# EAGLE library part IS63WV1024BLL-* (library memory-issi-asynsram)
128k x 8 high- speed CMOS static RAM 12ns access time 3.6V power supply
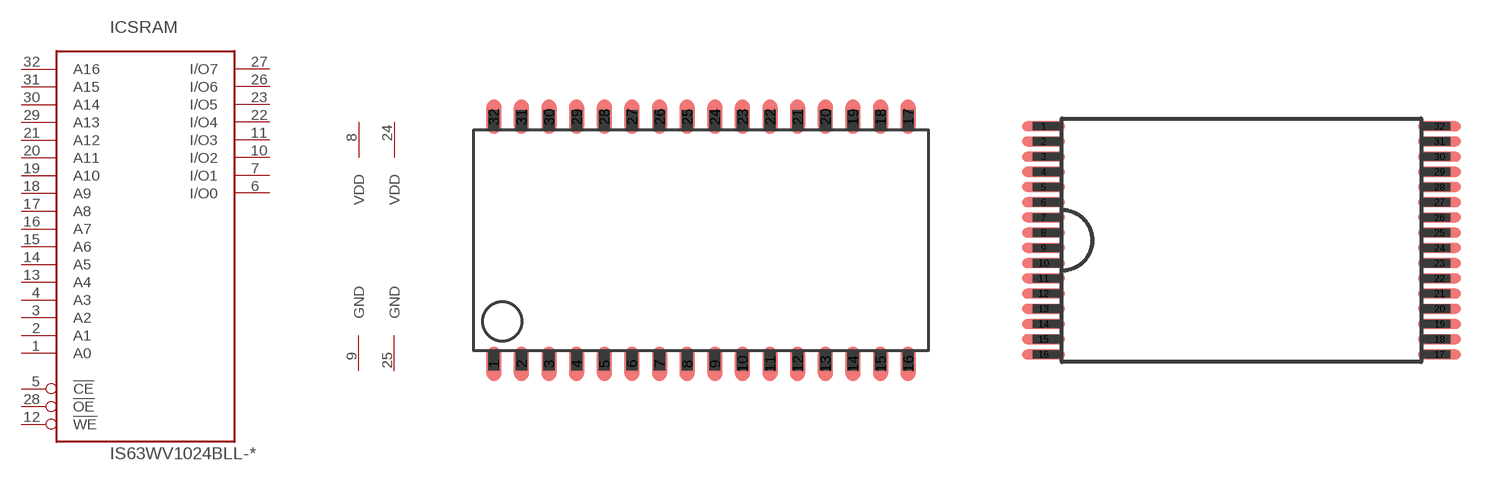
[diagram p20: symbol with the pads of TSOP-II-32; footprints TSOP-II-32, TSOP-I-32-8X13.4MM]

Designator prefix IC; gates PWR=PWR_VDD2_GND2 SRAM=128KX8_TYP1

## IS63WV1024BLL-12T  [TSOP-II-32]
1  SRAM:A0  in
2  SRAM:A1  in
3  SRAM:A2  in
4  SRAM:A3  in
5  SRAM:!CE  in
6  SRAM:I/O0  hiz
7  SRAM:I/O1  hiz
8  PWR:VDD  pwr
9  PWR:GND  pwr
10  SRAM:I/O2  hiz
11  SRAM:I/O3  hiz
12  SRAM:!WE  in
13  SRAM:A4  in
14  SRAM:A5  in
15  SRAM:A6  in
16  SRAM:A7  in
17  SRAM:A8  in
18  SRAM:A9  in
19  SRAM:A10  in
20  SRAM:A11  in
21  SRAM:A12  in
22  SRAM:I/O4  hiz
23  SRAM:I/O5  hiz
24  PWR:VDD  pwr
25  PWR:GND  pwr
26  SRAM:I/O6  hiz
27  SRAM:I/O7  hiz
28  SRAM:!OE  in
29  SRAM:A13  in
30  SRAM:A14  in
31  SRAM:A15  in
32  SRAM:A16  in

## IS63WV1024BLL-12H  [TSOP-I-32-8X13.4MM]
Pads as for TSOP-II-32

## IS63WV1024BLL-12J  [SOJ32-300MIL]
Pads as for TSOP-II-32

## IS63WV1024BLL-12B  [TFBGA48_6X8]
A2  SRAM:!OE  in
A3  SRAM:A2  in
A4  SRAM:A6  in
A5  SRAM:A7  in
B1  SRAM:I/O0  hiz
B3  SRAM:A1  in
B4  SRAM:A5  in
B5  SRAM:!CE  in
B6  SRAM:I/O7  hiz
C1  SRAM:I/O1  hiz
C3  SRAM:A0  in
C4  SRAM:A4  in
C6  SRAM:I/O6  hiz
D1  PWR:GND  pwr
D4  SRAM:A3  in
D6  PWR:VDD  pwr
E1  PWR:VDD  pwr
E6  PWR:GND  pwr
F1  SRAM:I/O2  hiz
F3  SRAM:A14  in
F4  SRAM:A11  in
F5  SRAM:I/O4  hiz
F6  SRAM:I/O5  hiz
G1  SRAM:I/O3  hiz
G3  SRAM:A15  in
G4  SRAM:A12  in
G5  SRAM:!WE  in
G6  SRAM:A8  in
H2  SRAM:A10  in
H3  SRAM:A16  in
H4  SRAM:A13  in
H5  SRAM:A9  in

## Footprint TSOP-II-32 (pad centres in mm)
TSOP-II-32 32-pin thin small-outline package, Typ II
smd 0.7 x 1.6: 1 -9.525,-5.68; 2 -8.255,-5.68; 3 -6.985,-5.68; 4 -5.715,-5.68; 5 -4.445,-5.68; 6 -3.175,-5.68; 7 -1.905,-5.68; 8 -0.635,-5.68; 9 0.635,-5.68; 10 1.905,-5.68; 11 3.175,-5.68; 12 4.445,-5.68; 13 5.715,-5.68; 14 6.985,-5.68; 15 8.255,-5.68; 16 9.525,-5.68; 17 9.525,5.68; 18 8.255,5.68; 19 6.985,5.68; 20 5.715,5.68; 21 4.445,5.68; 22 3.175,5.68; 23 1.905,5.68; 24 0.635,5.68; 25 -0.635,5.68; 26 -1.905,5.68; 27 -3.175,5.68; 28 -4.445,5.68; 29 -5.715,5.68; 30 -6.985,5.68; 31 -8.255,5.68; 32 -9.525,5.68

## Footprint TSOP-I-32-8X13.4MM (pad centres in mm)
TSOP-I-32 32-pin thin small-outline package, Typ I
smd 1.4 x 0.33: 1 -6.5,3.75; 2 -6.5,3.25; 3 -6.5,2.75; 4 -6.5,2.25; 5 -6.5,1.75; 6 -6.5,1.25; 7 -6.5,0.75; 8 -6.5,0.25; 9 -6.5,-0.25; 10 -6.5,-0.75; 11 -6.5,-1.25; 12 -6.5,-1.75; 13 -6.5,-2.25; 14 -6.5,-2.75; 15 -6.5,-3.25; 16 -6.5,-3.75; 17 6.5,-3.75; 18 6.5,-3.25; 19 6.5,-2.75; 20 6.5,-2.25; 21 6.5,-1.75; 22 6.5,-1.25; 23 6.5,-0.75; 24 6.5,-0.25; 25 6.5,0.25; 26 6.5,0.75; 27 6.5,1.25; 28 6.5,1.75; 29 6.5,2.25; 30 6.5,2.75; 31 6.5,3.25; 32 6.5,3.75

## Footprint SOJ32-300MIL (pad centres in mm)
SOJ32-300mil 32-pin small-outline J-lead
smd 0.7 x 1.9: 1 -9.525,-3.37; 2 -8.255,-3.37; 3 -6.985,-3.37; 4 -5.715,-3.37; 5 -4.445,-3.37; 6 -3.175,-3.37; 7 -1.905,-3.37; 8 -0.635,-3.37; 9 0.635,-3.37; 10 1.905,-3.37; 11 3.175,-3.37; 12 4.445,-3.37; 13 5.715,-3.37; 14 6.985,-3.37; 15 8.255,-3.37; 16 9.525,-3.37; 17 9.525,3.37; 18 8.255,3.37; 19 6.985,3.37; 20 5.715,3.37; 21 4.445,3.37; 22 3.175,3.37; 23 1.905,3.37; 24 0.635,3.37; 25 -0.635,3.37; 26 -1.905,3.37; 27 -3.175,3.37; 28 -4.445,3.37; 29 -5.715,3.37; 30 -6.985,3.37; 31 -8.255,3.37; 32 -9.525,3.37

## Footprint TFBGA48_6X8 (pad centres in mm)
TFBGA48 6 x 8 mm, 6 x 8-pin thin 0.75 mm pitch ball grid array package
smd 0.5 x 0.5: A1 -1.875,2.625; A2 -1.125,2.625; A3 -0.375,2.625; A4 0.375,2.625; A5 1.125,2.625; A6 1.875,2.625; B1 -1.875,1.875; B2 -1.125,1.875; B3 -0.375,1.875; B4 0.375,1.875; B5 1.125,1.875; B6 1.875,1.875; C1 -1.875,1.125; C2 -1.125,1.125; C3 -0.375,1.125; C4 0.375,1.125; C5 1.125,1.125; C6 1.875,1.125; D1 -1.875,0.375; D2 -1.125,0.375; D3 -0.375,0.375; D4 0.375,0.375; D5 1.125,0.375; D6 1.875,0.375; E1 -1.875,-0.375; E2 -1.125,-0.375; E3 -0.375,-0.375; E4 0.375,-0.375; E5 1.125,-0.375; E6 1.875,-0.375; F1 -1.875,-1.125; F2 -1.125,-1.125; F3 -0.375,-1.125; F4 0.375,-1.125; F5 1.125,-1.125; F6 1.875,-1.125; G1 -1.875,-1.875; G2 -1.125,-1.875; G3 -0.375,-1.875; G4 0.375,-1.875; G5 1.125,-1.875; G6 1.875,-1.875; H1 -1.875,-2.625; H2 -1.125,-2.625; H3 -0.375,-2.625; H4 0.375,-2.625; H5 1.125,-2.625; H6 1.875,-2.625